# EAGLE library part RJHSE-5080 (library rs485)
Mod. Jack, Right Angle, 8 posiotion, 8 contatcs RJ45 Source: https://www.amphenolcanada.com/ProductSearch/drawings/AC/RJHSE5080.pdf
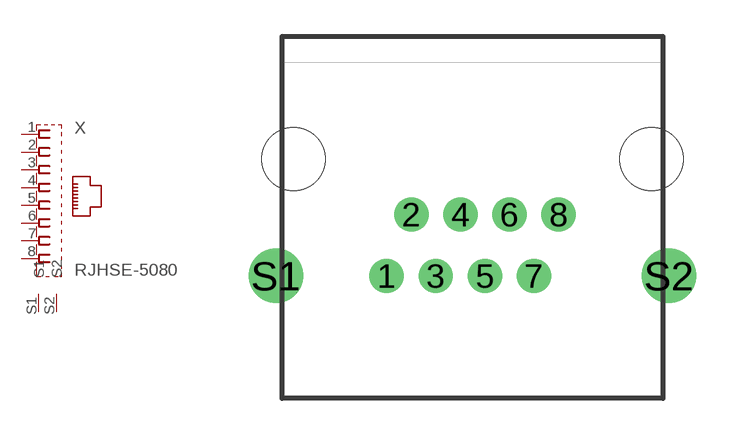
[diagram p0: symbol with the pads of RJHSE-5080; footprint RJHSE-5080]

Designator prefix X

## RJHSE-5080  [RJHSE-5080]
1  1  pas
2  2  pas
3  3  pas
4  4  pas
5  5  pas
6  6  pas
7  7  pas
8  8  pas
S1  S1
S2  S2

## Footprint RJHSE-5080 (pad centres in mm)
Mod. Jack, Right Angle, 8 posiotion, 8 contatcs RJ45 Source: GLX-S-88M.pdf
drill 0.9 pad 1.422: 1 -3.55,-4.84; 2 -2.53,-2.3; 3 -1.52,-4.84; 4 -0.5,-2.3; 5 0.51,-4.84; 6 1.53,-2.3; 7 2.54,-4.84; 8 3.56,-2.3
drill 1.5: S1 -8.125,-4.84; S2 8.125,-4.84
hole 2.6 at -7.4,0
hole 2.6 at 7.4,0